# Altium schematic symbol library CONN1X2.Schlib: 1 symbol
Pins are listed as number, name and electrical type; pins without a type are passive.

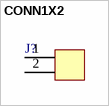
[diagram p0: symbol CONN1X2]

## CONN1X2
designator J?
footprint CONN 640455-2 (Footprint not found)
pins: 1, 2
2 alternate drawings of the same symbol